# EAGLE library part FE22-2 (library con-edge-156)
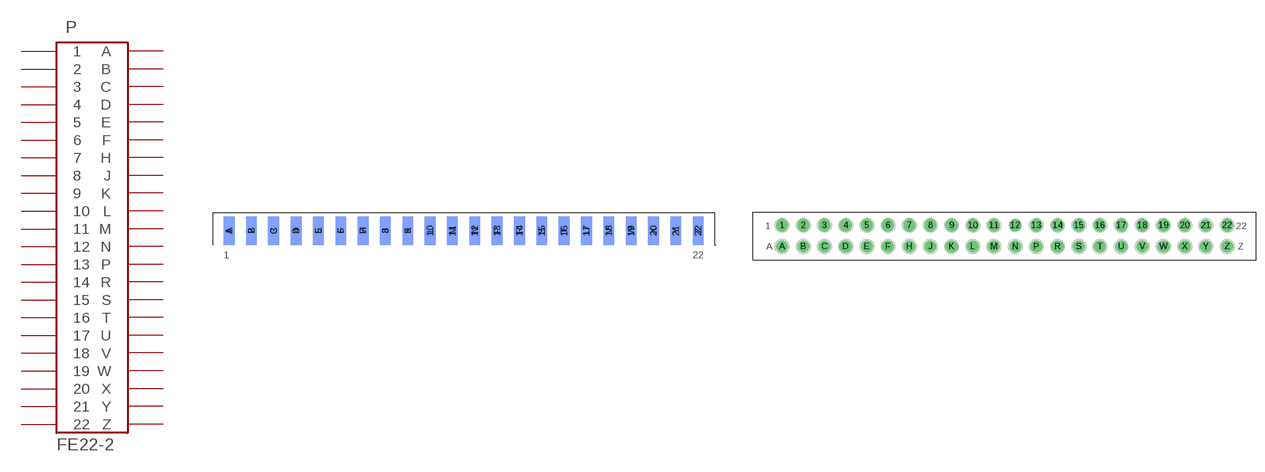
[diagram p4: symbol with the pads of FE22-2_SHORT; footprints FE22-2_SHORT, FE22-2_REV]

Designator prefix P

## FE22-2E  [FE22-2_SHORT]
1  1  pas
2  2  pas
3  3  pas
4  4  pas
5  5  pas
6  6  pas
7  7  pas
8  8  pas
9  9  pas
10  10  pas
11  11  pas
12  12  pas
13  13  pas
14  14  pas
15  15  pas
16  16  pas
17  17  pas
18  18  pas
19  19  pas
20  20  pas
21  21  pas
22  22  pas
A  A  pas
B  B  pas
C  C  pas
D  D  pas
E  E  pas
F  F  pas
H  H  pas
J  J  pas
K  K  pas
L  L  pas
M  M  pas
N  N  pas
P  P  pas
R  R  pas
S  S  pas
T  T  pas
U  U  pas
V  V  pas
W  W  pas
X  X  pas
Y  Y  pas
Z  Z  pas

## FE22-2R  [FE22-2_REV]
Pads as for FE22-2_SHORT

## Footprint FE22-2_SHORT (pad centres in mm)
smd 1.905 x 5.08: 1 -41.605,0; 2 -37.643,0; 3 -33.68,0; 4 -29.718,0; 5 -25.756,0; 6 -21.793,0; 7 -17.831,0; 8 -13.868,0; 9 -9.906,0; 10 -5.944,0; 11 -1.981,0; 12 1.981,0; 13 5.944,0; 14 9.906,0; 15 13.868,0; 16 17.831,0; 17 21.793,0; 18 25.756,0; 19 29.718,0; 20 33.68,0; 21 37.643,0; 22 41.605,0
smd 1.905 x 5.08 bottom: A -41.605,0; B -37.643,0; C -33.68,0; D -29.718,0; E -25.756,0; F -21.793,0; H -17.831,0; J -13.868,0; K -9.906,0; L -5.944,0; M -1.981,0; N 1.981,0; P 5.944,0; R 9.906,0; S 13.868,0; T 17.831,0; U 21.793,0; V 25.756,0; W 29.718,0; X 33.68,0; Y 37.643,0; Z 41.605,0

## Footprint FE22-2_REV (pad centres in mm)
drill 1.5 round: 1 -41.605,1.981; 2 -37.643,1.981; 3 -33.68,1.981; 4 -29.718,1.981; 5 -25.756,1.981; 6 -21.793,1.981; 7 -17.831,1.981; 8 -13.868,1.981; 9 -9.906,1.981; 10 -5.944,1.981; 11 -1.981,1.981; 12 1.981,1.981; 13 5.944,1.981; 14 9.906,1.981; 15 13.868,1.981; 16 17.831,1.981; 17 21.793,1.981; 18 25.756,1.981; 19 29.718,1.981; 20 33.68,1.981; 21 37.644,1.958; 22 41.605,1.98; A -41.605,-1.981; B -37.643,-1.981; C -33.68,-1.981; D -29.718,-1.981; E -25.756,-1.981; F -21.793,-1.981; H -17.831,-1.981; J -13.868,-1.981; K -9.906,-1.981; L -5.944,-1.981; M -1.981,-1.981; N 1.981,-1.981; P 5.944,-1.981; R 9.906,-1.981; S 13.868,-1.981; T 17.831,-1.981; U 21.793,-1.981; V 25.756,-1.981; W 29.718,-1.981; X 33.68,-1.981; Y 37.643,-1.981; Z 41.605,-1.981